# Altium footprint library NEW_PCB_2021-12-20.PcbLib: 1 footprints
Each footprint in its own frame and in the unit in brackets; x right, y up, seen from the top. Pads: shape width x height; smd on the part's side, far side on the other; paste and mask are expansions set on the pad; w line width, h text height; cw(c..) or ccw(c..) is an arc to the next point about the centre after c.
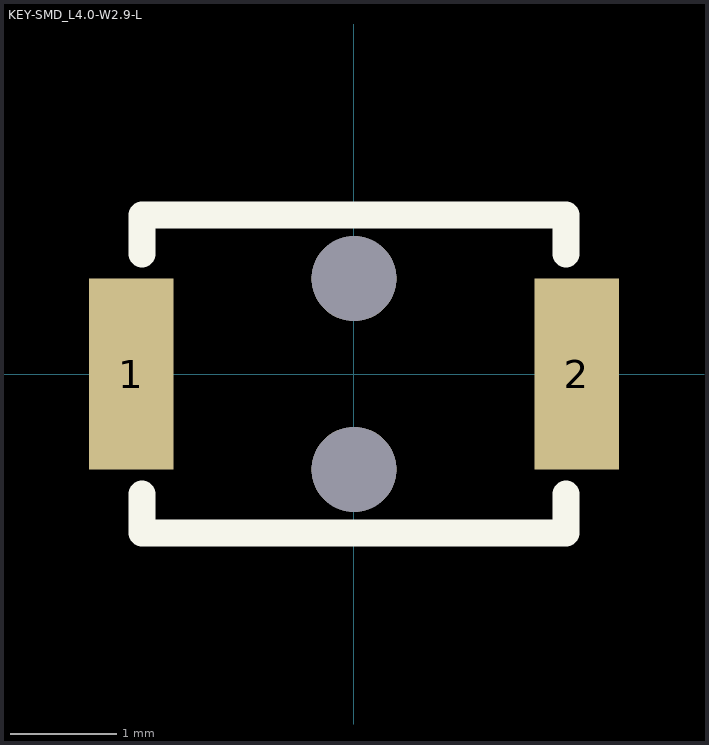
[diagram p0: the footprint, top view; thin cyan lines are the x and y axes]

## KEY-SMD_L4.0-W2.9-L [mm]
pads (4):
  rect 0.8x1.8 smd: 1(-2.1,0) 2(2.1,0)
  round 0.8 hole 0.8 unplated: ""(0,-0.9) ""(0,0.9)
Top Overlay:
  lines w0.254: -2,-1.131 -2,-1.5 2,-1.5 2,-1.131 ; -2,1.131 -2,1.5 2,1.5 2,1.131